# Altium footprint library PCB_Oscillator.PcbLib: 12 footprints
Each footprint in its own frame and in the unit in brackets; x right, y up, seen from the top. Pads: shape width x height; smd on the part's side, far side on the other; paste and mask are expansions set on the pad; w line width, h text height; cw(c..) or ccw(c..) is an arc to the next point about the centre after c.
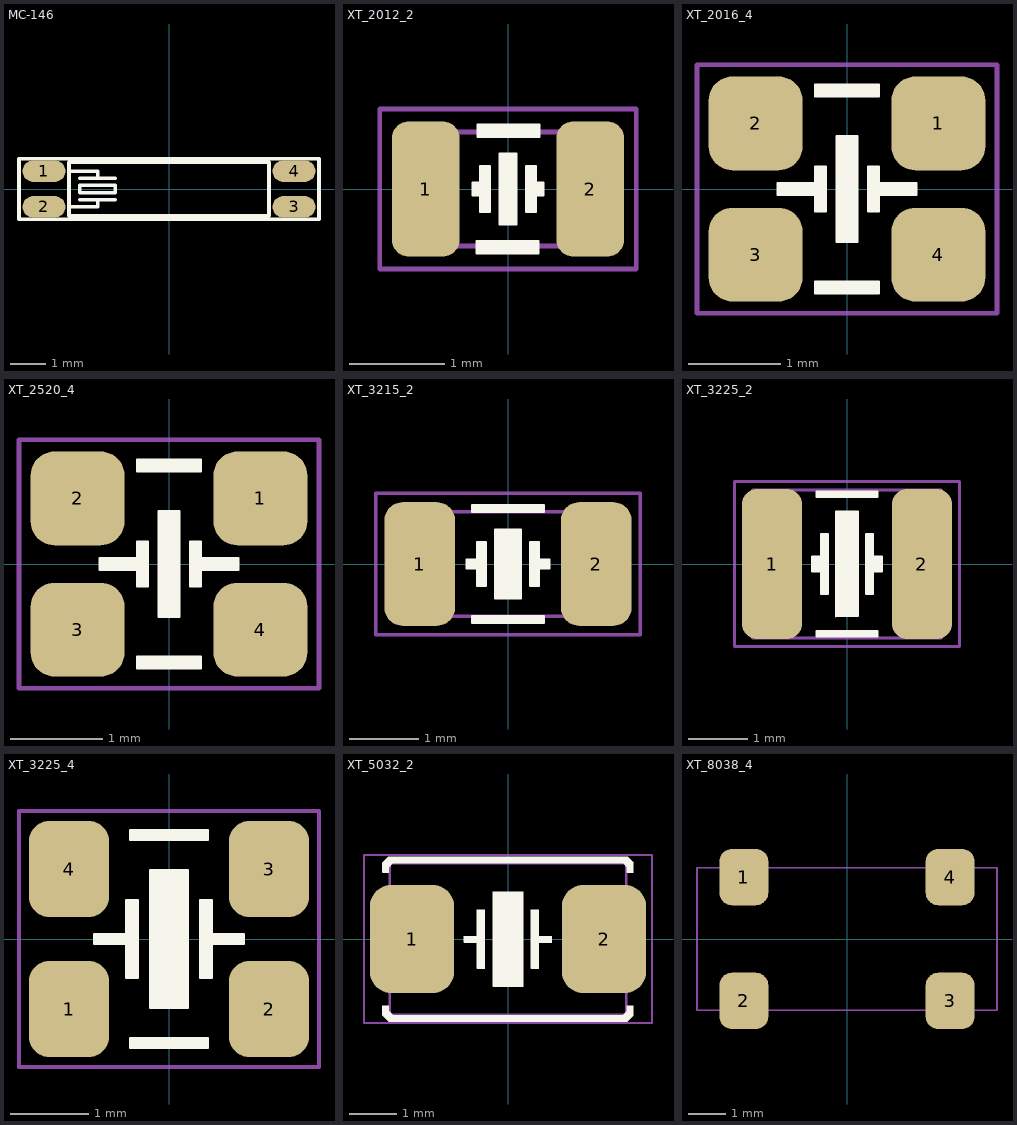
[diagram p0: the footprints below, top view; thin cyan lines are the x and y axes]

## MC-146 [mm]
height 1.45
pads (4):
  oval 1.2x0.6 smd: 1(-3.5,0.5) 2(-3.5,-0.5) 3(3.5,-0.5) 4(3.5,0.5)
Top Overlay:
  lines w0.1: -4.2,-0.85 -4.2,0.85 4.2,0.85 4.2,-0.85 -4.2,-0.85 ; -2.8,-0.75 -2.8,0.75 2.8,0.75 2.8,-0.75 -2.8,-0.75
  lines w0.102: -2.8,-0.5 -2,-0.5 -2,-0.3 ; -2.8,0.5 -2,0.5 -2,0.3 ; -2.5,-0.3 -1.5,-0.3 ; -2.5,0.3 -1.5,0.3 ; -2.5,-0.1 -2.5,0.1 -1.5,0.1 -1.5,-0.1 -2.5,-0.1
3D body "User Library-KX-327LT.STEP": height 1.4, standoff 0, extent -3.45,-0.762 3.45,0.738

## XT_2012_2 [mil]
height 25.59
pads (2):
  rrect50% 28x56 smd: 1(-34,0) 2(34,0)
Top Overlay:
  region: 12.5,-26.5 -13,-26.5 -13,-21.5 12.5,-21.5
  region: 11.5,-9.5 7.5,-9.5 7.5,9.5 11.5,9.5 11.5,2.5 14.5,2.5 14.5,-2.5 11.5,-2.5
  region: -3.5,14.5 3.5,14.5 3.5,-14.5 -3.5,-14.5
  region: -11.5,9.5 -7.5,9.5 -7.5,-9.5 -11.5,-9.5 -11.5,-2.5 -14.5,-2.5 -14.5,2.5 -11.5,2.5
  region: -12.5,26.5 13,26.5 13,21.5 -12.5,21.5
  lines w1: -14.5,-2.5 -14.5,2.5 -11.5,2.5 -11.5,9.5 -7.5,9.5 -7.5,-9.5 -11.5,-9.5 -11.5,-2.5 -14.5,-2.5 ; -13,-26.5 12.5,-26.5 12.5,-21.5 -13,-21.5 -13,-26.5 ; -12.5,21.5 13,21.5 13,26.5 -12.5,26.5 -12.5,21.5 ; -3.5,-14.5 3.5,-14.5 3.5,14.5 -3.5,14.5 -3.5,-14.5 ; 7.5,-9.5 7.5,9.5 11.5,9.5 11.5,2.5 14.5,2.5 14.5,-2.5 11.5,-2.5 11.5,-9.5 7.5,-9.5
Mechanical 13:
  lines w2: -39.37,-23.62 39.37,-23.62 39.37,23.62 -39.37,23.62 -39.37,-23.62
T-Component:
  lines w2: -53,-33 53,-33 53,33 -53,33 -53,-33
3D body "User Library-Osc KC2520.STEP": height 31.1, standoff 0, extent -49.21,-39.36 49.22,39.37

## XT_2016_4 [mil]
height 29.53
pads (4):
  rrect50% 40x40 smd: 1(39,28) 2(-39,28) 3(-39,-28) 4(39,-28)
Top Overlay:
  region: 9,9.5 13.5,9.5 13.5,2.5 29.5,2.5 29.5,-2.5 13.5,-2.5 13.5,-9.5 9,-9.5
  region: -4.5,22.5 4.5,22.5 4.5,-22.5 -4.5,-22.5
  region: -29.5,2.5 -13.5,2.5 -13.5,9.5 -9,9.5 -9,-9.5 -13.5,-9.5 -13.5,-2.5 -29.5,-2.5
  region: -13.5,-39.5 13.5,-39.5 13.5,-44.5 -13.5,-44.5
  region: -13.5,44.5 13.5,44.5 13.5,39.5 -13.5,39.5
  lines w1: -29.5,-2.5 -29.5,2.5 -13.5,2.5 -13.5,9.5 -9,9.5 -9,-9.5 -13.5,-9.5 -13.5,-2.5 -29.5,-2.5 ; -13.5,-44.5 -13.5,-39.5 13.5,-39.5 13.5,-44.5 -13.5,-44.5 ; -13.5,39.5 13.5,39.5 13.5,44.5 -13.5,44.5 -13.5,39.5 ; -4.5,-22.5 -4.5,22.5 4.5,22.5 4.5,-22.5 -4.5,-22.5 ; 9,-9.5 13.5,-9.5 13.5,-2.5 29.5,-2.5 29.5,2.5 13.5,2.5 13.5,9.5 9,9.5 9,-9.5
T-Component:
  lines w2: -64,-53 -64,53 64,53 64,-53 -64,-53

## XT_2520_4 [mil]
height 29.53
pads (4):
  rrect50% 40x40 smd: 1(39,28) 2(-39,28) 3(-39,-28) 4(39,-28)
Top Overlay:
  region: -13.5,44.5 13.5,44.5 13.5,39.5 -13.5,39.5
  region: -13.5,-39.5 13.5,-39.5 13.5,-44.5 -13.5,-44.5
  region: -29.5,2.5 -13.5,2.5 -13.5,9.5 -9,9.5 -9,-9.5 -13.5,-9.5 -13.5,-2.5 -29.5,-2.5
  region: -4.5,22.5 4.5,22.5 4.5,-22.5 -4.5,-22.5
  region: 9,9.5 13.5,9.5 13.5,2.5 29.5,2.5 29.5,-2.5 13.5,-2.5 13.5,-9.5 9,-9.5
  lines w1: -29.5,-2.5 -13.5,-2.5 -13.5,-9.5 -9,-9.5 -9,9.5 -13.5,9.5 -13.5,2.5 -29.5,2.5 -29.5,-2.5 ; -13.5,-44.5 13.5,-44.5 13.5,-39.5 -13.5,-39.5 -13.5,-44.5 ; -13.5,39.5 -13.5,44.5 13.5,44.5 13.5,39.5 -13.5,39.5 ; -4.5,-22.5 4.5,-22.5 4.5,22.5 -4.5,22.5 -4.5,-22.5 ; 9,-9.5 9,9.5 13.5,9.5 13.5,2.5 29.5,2.5 29.5,-2.5 13.5,-2.5 13.5,-9.5 9,-9.5
T-Component:
  lines w2: -64,-53 64,-53 64,53 -64,53 -64,-53
3D body "User Library-Osc KC2520.STEP": height 31.1, standoff 0, extent -49.21,-39.36 49.22,39.37

## XT_3215_2 [mil]
height 25.59
pads (2):
  rrect50% 40x70 smd: 1(-50,0) 2(50,0)
Top Overlay:
  region: 20.5,-33.5 -20.5,-33.5 -20.5,-29.5 20.5,-29.5
  region: 12.5,12.5 17.5,12.5 17.5,2.5 23.5,2.5 23.5,-2.5 17.5,-2.5 17.5,-12.5 12.5,-12.5
  region: -12.5,-12.5 -17.5,-12.5 -17.5,-2.5 -23.5,-2.5 -23.5,2.5 -17.5,2.5 -17.5,12.5 -12.5,12.5
  region: -7.5,19.5 7.5,19.5 7.5,-19.5 -7.5,-19.5
  region: -20.5,33.5 20.5,33.5 20.5,29.5 -20.5,29.5
  lines w1: -23.5,-2.5 -23.5,2.5 -17.5,2.5 -17.5,12.5 -12.5,12.5 -12.5,-12.5 -17.5,-12.5 -17.5,-2.5 -23.5,-2.5 ; -20.5,-33.5 20.5,-33.5 20.5,-29.5 -20.5,-29.5 -20.5,-33.5 ; -20.5,29.5 -20.5,33.5 20.5,33.5 20.5,29.5 -20.5,29.5 ; -7.5,-19.5 -7.5,19.5 7.5,19.5 7.5,-19.5 -7.5,-19.5 ; 12.5,-12.5 17.5,-12.5 17.5,-2.5 23.5,-2.5 23.5,2.5 17.5,2.5 17.5,12.5 12.5,12.5 12.5,-12.5
Mechanical 13:
  lines w2: -63,-29.51 62.99,-29.51 62.99,29.53 -63,29.53 -63,-29.51
T-Component:
  lines w2: -75,-40 75,-40 75,40 -75,40 -75,-40
3D body "User Library-ECX-31B.STEP": height 35.43, standoff 0, extent -63,-29.51 62.99,29.55

## XT_3225_2 [mil]
height 25.59
pads (2):
  rrect50% 40x100 smd: 1(-50,0) 2(50,0)
Top Overlay:
  region: -20.5,48.5 20.5,48.5 20.5,44.5 -20.5,44.5
  region: -7.5,35 7.5,35 7.5,-35 -7.5,-35
  region: -12.5,-20 -17.5,-20 -17.5,-5 -23.5,-5 -23.5,5 -17.5,5 -17.5,20 -12.5,20
  region: 12.5,20 17.5,20 17.5,5 23.5,5 23.5,-5 17.5,-5 17.5,-20 12.5,-20
  region: 20.5,-48.5 -20.5,-48.5 -20.5,-44.5 20.5,-44.5
  lines w1: -23.5,-5 -23.5,5 -17.5,5 -17.5,20 -12.5,20 -12.5,-20 -17.5,-20 -17.5,-5 -23.5,-5 ; -20.5,-48.5 -20.5,-44.5 20.5,-44.5 20.5,-48.5 -20.5,-48.5 ; -20.5,44.5 20.5,44.5 20.5,48.5 -20.5,48.5 -20.5,44.5 ; -7.5,-35 7.5,-35 7.5,35 -7.5,35 -7.5,-35 ; 12.5,-20 12.5,20 17.5,20 17.5,5 23.5,5 23.5,-5 17.5,-5 17.5,-20 12.5,-20
Mechanical 13:
  lines w2: -63,-49.21 62.99,-49.21 62.99,49.21 -63,49.21 -63,-49.21
T-Component:
  lines w2: -75,-55 75,-55 75,55 -75,55 -75,-55
3D body "User Library-SG310.STEP": height 41.34, standoff 0, extent -62.98,-49.21 63,49.21

## XT_3225_4 [mil]
height 47.24
pads (4):
  rrect50% 40x48 smd: 1(-50,-35) 2(50,-35) 3(50,35) 4(-50,35)
Top Overlay:
  region: 19.5,-54.5 -19.5,-54.5 -19.5,-49.5 19.5,-49.5
  region: 21.5,-19.5 15.5,-19.5 15.5,19.5 21.5,19.5 21.5,2.5 37.5,2.5 37.5,-2.5 21.5,-2.5
  region: -21.5,19.5 -15.5,19.5 -15.5,-19.5 -21.5,-19.5 -21.5,-2.5 -37.5,-2.5 -37.5,2.5 -21.5,2.5
  region: -9.5,34.5 9.5,34.5 9.5,-34.5 -9.5,-34.5
  region: -19.5,54.5 19.5,54.5 19.5,49.5 -19.5,49.5
  lines w1: -37.5,-2.5 -37.5,2.5 -21.5,2.5 -21.5,19.5 -15.5,19.5 -15.5,-19.5 -21.5,-19.5 -21.5,-2.5 -37.5,-2.5 ; -19.5,-54.5 -19.5,-49.5 19.5,-49.5 19.5,-54.5 -19.5,-54.5 ; -19.5,49.5 -19.5,54.5 19.5,54.5 19.5,49.5 -19.5,49.5 ; -9.5,-34.5 9.5,-34.5 9.5,34.5 -9.5,34.5 -9.5,-34.5 ; 15.5,-19.5 15.5,19.5 21.5,19.5 21.5,2.5 37.5,2.5 37.5,-2.5 21.5,-2.5 21.5,-19.5 15.5,-19.5
T-Component:
  lines w2: -75,-64 -75,64 75,64 75,-64 -75,-64
3D body "User Library-SG310.STEP": height 41.34, standoff 0, extent -62.98,-49.21 63,49.21

## XT_5032_2 [mil]
height 47.24
pads (2):
  rrect50% 70x90 smd: 1(-80,0) 2(80,0)
Top Overlay:
  region: 19.5,-24.5 25.5,-24.5 25.5,-2.5 36.5,-2.5 36.5,2.5 25.5,2.5 25.5,24.5 19.5,24.5
  region: -12.5,39.5 12.5,39.5 12.5,-39.5 -12.5,-39.5
  region: -19.5,24.5 -25.5,24.5 -25.5,2.5 -36.5,2.5 -36.5,-2.5 -25.5,-2.5 -25.5,-24.5 -19.5,-24.5
  region: -104.5,55.5 -99.5,55.5 -99.5,60 -96,63.5 96,63.5 99.5,60 99.5,55.5 104.5,55.5 104.5,63.5 99.5,68.5 -99.5,68.5 -104.5,63.5
  region: 104.5,-55.5 99.5,-55.5 99.5,-60 96,-63.5 -96,-63.5 -99.5,-60 -99.5,-55.5 -104.5,-55.5 -104.5,-63.5 -99.5,-68.5 99.5,-68.5 104.5,-63.5
  lines w1: -104.5,-63.5 -104.5,-55.5 -99.5,-55.5 -99.5,-60 -96,-63.5 96,-63.5 99.5,-60 99.5,-55.5 104.5,-55.5 104.5,-63.5 99.5,-68.5 -99.5,-68.5 -104.5,-63.5 ; -104.5,55.5 -104.5,63.5 -99.5,68.5 99.5,68.5 104.5,63.5 104.5,55.5 99.5,55.5 99.5,60 96,63.5 -96,63.5 -99.5,60 -99.5,55.5 -104.5,55.5 ; -36.5,-2.5 -36.5,2.5 -25.5,2.5 -25.5,24.5 -19.5,24.5 -19.5,-24.5 -25.5,-24.5 -25.5,-2.5 -36.5,-2.5 ; -12.5,-39.5 -12.5,39.5 12.5,39.5 12.5,-39.5 -12.5,-39.5 ; 19.5,-24.5 25.5,-24.5 25.5,-2.5 36.5,-2.5 36.5,2.5 25.5,2.5 25.5,24.5 19.5,24.5 19.5,-24.5
Mechanical 13:
  lines w2: -98.43,-63 98.42,-63 98.43,-63 98.43,62.99 -98.43,62.99 -98.43,-63
T-Component:
  lines w2: -120,-70 -120,70 120,70 120,-70 -120,-70
3D body "User Library-CRYSTALSMD5X32.STEP": height 39.37, standoff 0, extent -98.42,-63 98.43,62.99

## XT_5032_4 [mil]
height 47.24
3D body "User Library-CRYSTALSMD5X32.STEP": height 39.37, standoff 0, extent -98.43,-62.98 98.43,63

## XT_8038_4 [mm]
height 2.54
pads (4):
  rrect50% 1.3x1.5 smd: 1(-2.75,1.65) 2(-2.75,-1.65) 3(2.75,-1.65) 4(2.75,1.65)
Mechanical 13:
  lines w0.051: -4,-1.9 -4,1.9 4,1.9 4,-1.9 -4,-1.9
3D body "SW3dPS-ZM206.STEP": height 2.43, standoff -0.1, extent -4.012,-1.9 3.988,1.9

## XT_HC49S_D [mil]
height 47.24
3D body "SW3dPS-HP49US.STEP": height 137.8, standoff -157.48, extent -227.43,-86.07 219.43,97

## XT_HC49S_S [mil]
height 47.24
3D body "User Library-Crystal HC49_US-SM.STEP": height 169.29, standoff 0, extent -251.96,-95.07 251.98,95.08